# EAGLE library part AK130/20 (library PTR_AK130)
ANSCHLUSSKLEMME AK130 (20POLIG)
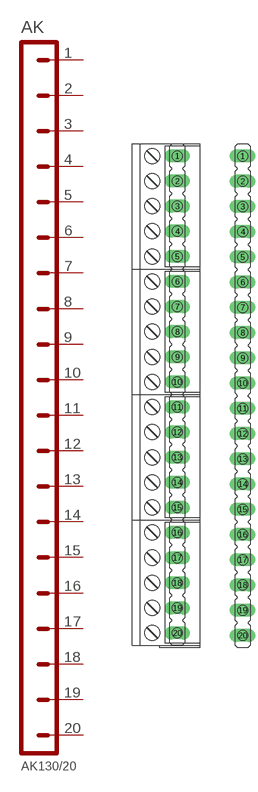
[diagram p14: symbol with the pads of AK20; footprints AK20, STL20]

Designator prefix AK

## AK130/20  [AK20]
1  P$1
2  P$2
3  P$3
4  P$4
5  P$5
6  P$6
7  P$7
8  P$8
9  P$9
10  P$10
11  P$11
12  P$12
13  P$13
14  P$14
15  P$15
16  P$16
17  P$17
18  P$18
19  P$19
20  P$20

## AK130/20_STL  [STL20]
Pads as for AK20

## Footprint AK20 (pad centres in mm)
AK130 (20POLIG) 4x AK130/5-5.0-GRAU STL130/24-5.0-V-SCHWARZ
drill 1.5 pad 2.54 long: 1 0,47.5; 2 0,42.5; 3 0,37.5; 4 0,32.5; 5 0,27.5; 6 0,22.5; 7 0,17.5; 8 0,12.5; 9 0,7.5; 10 0,2.5; 11 0,-2.5; 12 0,-7.5; 13 0,-12.5; 14 0,-17.5; 15 0,-22.5; 16 0,-27.5; 17 0,-32.5; 18 0,-37.5; 19 0,-42.5; 20 0,-47.5

## Footprint STL20 (pad centres in mm)
STL130 (20POLIG) STL130/24-5.0-V-SCHWARZ
drill 1.5 pad 2.54 long: 1 0,47.5; 2 0,42.5; 3 0,37.5; 4 0,32.5; 5 0,27.5; 6 0,22.5; 7 0,17.5; 8 0,12.5; 9 0,7.5; 10 0,2.5; 11 0,-2.5; 12 0,-7.5; 13 0,-12.5; 14 0,-17.5; 15 0,-22.5; 16 0,-27.5; 17 0,-32.5; 18 0,-37.5; 19 0,-42.5; 20 0,-47.5